# Altium footprint library SL_Fuses.PcbLib: 5 footprints
Each footprint in its own frame and in the unit in brackets; x right, y up, seen from the top. Pads: shape width x height; smd on the part's side, far side on the other; paste and mask are expansions set on the pad; w line width, h text height; cw(c..) or ccw(c..) is an arc to the next point about the centre after c.
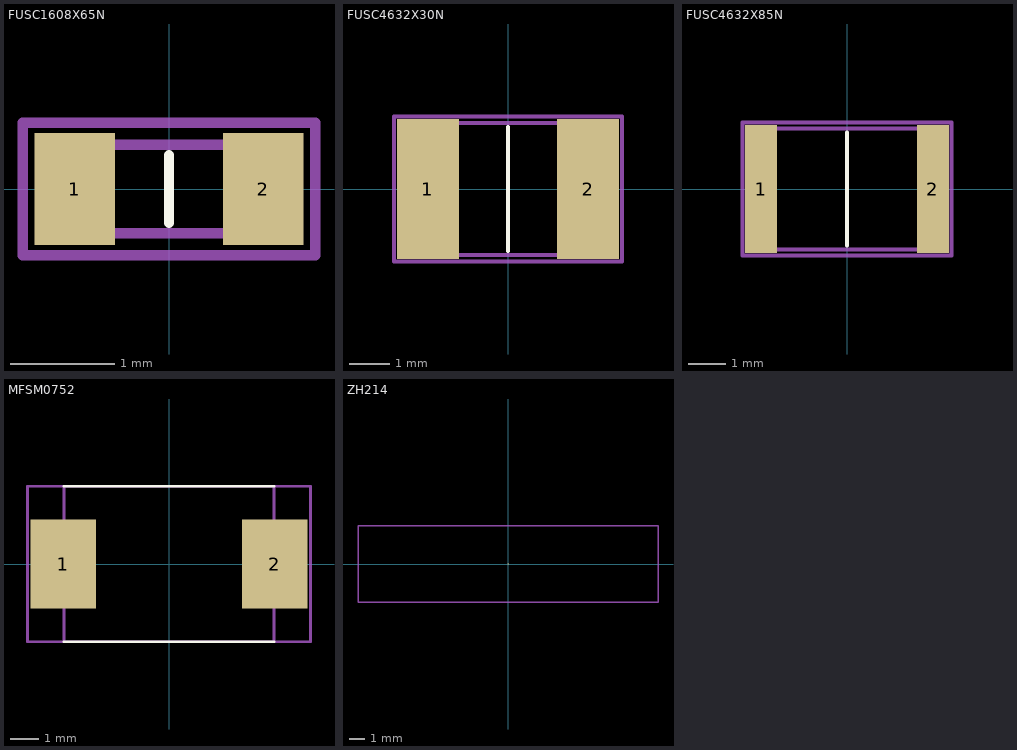
[diagram p0: the footprints below, top view; thin cyan lines are the x and y axes]

## FUSC1608X65N [mm]
pads (2):
  rect 0.77x1.07 smd: 1(-0.9,0) 2(0.9,0)
Top Overlay:
  lines w0.1: 0,-0.325 0,0.325
Mechanical 13:
  lines w0.1: -0.825,-0.425 0.825,-0.425 0.825,0.425 -0.825,0.425 -0.825,-0.425
Mechanical 15:
  lines w0.1: -1.397,-0.635 1.397,-0.635 1.397,0.635 -1.397,0.635 -1.397,-0.635
3D body "MF-FSMF020X-2.stp": height 0.65, standoff 0, extent -0.825,-0.425 0.825,0.425

## FUSC4632X30N [mm]
pads (2):
  rect 1.52x3.43 smd: 1(-1.965,0) 2(1.965,0)
Top Overlay:
  lines w0.1: 0,-1.52 0,1.52
Mechanical 13:
  lines w0.1: -2.275,-1.62 2.275,-1.62 2.275,1.62 -2.275,1.62 -2.275,-1.62
Mechanical 15:
  lines w0.1: -2.794,-1.778 2.794,-1.778 2.794,1.778 -2.794,1.778 -2.794,-1.778
3D body "MF-MSMF020_60-2.stp": height 0.3, standoff 0, extent -2.275,-1.62 2.275,1.62

## FUSC4632X85N [mm]
pads (2):
  rect 0.85x3.43 smd: 1(-2.3,0) 2(2.3,0)
Top Overlay:
  lines w0.1: 0,-1.52 0,1.52
Mechanical 13:
  lines w0.1: -2.275,-1.62 2.275,-1.62 2.275,1.62 -2.275,1.62 -2.275,-1.62
Mechanical 15:
  lines w0.1: -2.794,-1.778 2.794,-1.778 2.794,1.778 -2.794,1.778 -2.794,-1.778
3D body "MF-MSMF110_16-2.stp": height 0.85, standoff 0, extent -2.275,-1.62 2.275,1.62

## MFSM0752 [mm]
pads (2):
  rect 2.3x3.1 smd: 1(-3.7,0) 2(3.7,0)
Top Overlay:
  lines w0.1: -3.677,-2.72 3.677,-2.72 ; -3.677,2.72 3.677,2.72
Mechanical 13:
  lines w0.1: -3.677,-2.72 3.677,-2.72 3.677,2.72 -3.677,2.72 -3.677,-2.72
Mechanical 15:
  lines w0.1: -4.953,-2.72 4.953,-2.72 4.953,2.72 -4.953,2.72 -4.953,-2.72
3D body "MF-SM075-2.stp": height 3.18, standoff 0, extent -3.99,-2.72 3.99,2.72

## ZH214 [mm]
pads (1):
  rect 0.1x0.1 smd: 1(0,0)
Mechanical 13:
  lines w0.1: -10.033,-2.54 10,-2.54 10,2.54 -10.033,2.54 -10.033,-2.54
Mechanical 15:
  lines w0.1: -10.033,-2.54 10,-2.54 10,2.54 -10.033,2.54 -10.033,-2.54
3D body "ZH214.STEP": height 10, standoff 5, extent -10,-2.5 10,2.5